# Altium footprint library SESD0402X1UN-0020-090.PcbLib: 1 footprints
Each footprint in its own frame and in the unit in brackets; x right, y up, seen from the top. Pads: shape width x height; smd on the part's side, far side on the other; paste and mask are expansions set on the pad; w line width, h text height; cw(c..) or ccw(c..) is an arc to the next point about the centre after c.
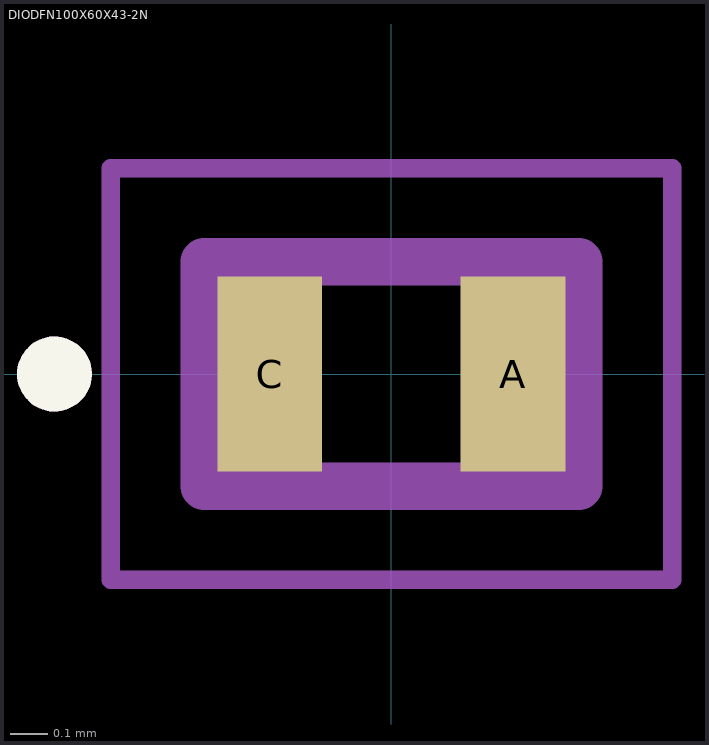
[diagram p0: the footprint, top view; thin cyan lines are the x and y axes]

## DIODFN100X60X43-2N [mm]
pads (2):
  rect 0.28x0.52 smd: A(0.325,0) C(-0.325,0)
Top Overlay:
  circle w0.1: c-0.9,0 r0.05
Mechanical 13:
  circle w0.1: c-0.9,0 r0.05
  lines w0.127: -0.5,-0.3 0.5,-0.3 0.5,0.3 -0.5,0.3 -0.5,-0.3
Mechanical 15:
  lines w0.05: -0.75,-0.55 0.75,-0.55 0.75,0.55 -0.75,0.55 -0.75,-0.55